# Altium footprint library BD33C0AFP.PcbLib: 1 footprints
Each footprint in its own frame and in the unit in brackets; x right, y up, seen from the top. Pads: shape width x height; smd on the part's side, far side on the other; paste and mask are expansions set on the pad; w line width, h text height; cw(c..) or ccw(c..) is an arc to the next point about the centre after c.
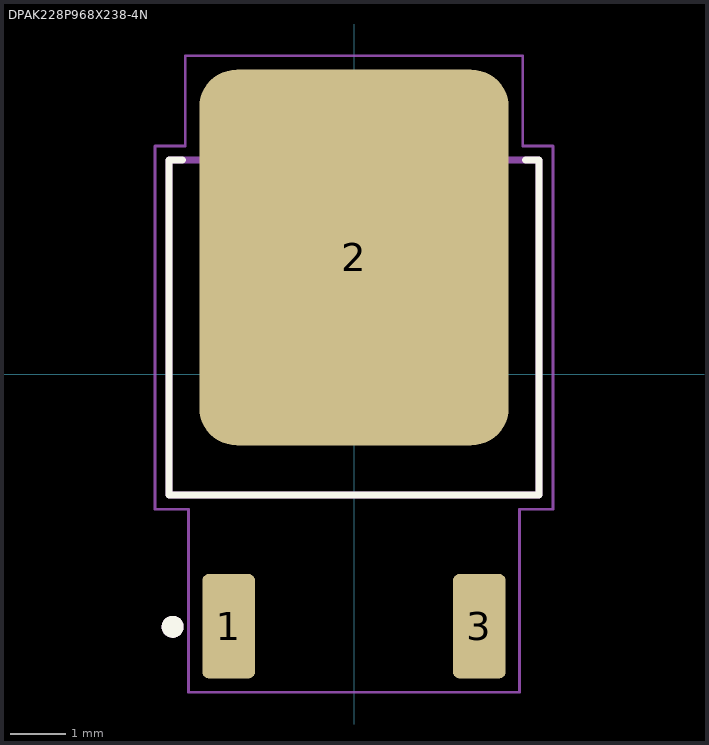
[diagram p0: the footprint, top view; thin cyan lines are the x and y axes]

## DPAK228P968X238-4N [mm]
pads (3):
  rrect24% 0.96x1.9 smd: 1(-2.28,-4.59) 3(2.28,-4.59)
  rrect24% 5.63x6.84 smd paste-4: 2(0,2.12)
Top Overlay:
  circle w0.2: c-3.3,-4.6 r0.1
  lines w0.127: -3.122,3.895 -3.37,3.895 -3.37,-2.205 3.37,-2.205 3.37,3.895 3.122,3.895
Top Paste:
  region: 1.78,-0.043 -1.783,-0.043 -1.783,4.283 1.78,4.283
Mechanical 13:
  circle w0.2: c-3.3,-4.6 r0.1
  lines w0.127: -3.37,-2.205 3.37,-2.205 3.37,3.895 -3.37,3.895 -3.37,-2.205
Mechanical 15:
  lines w0.05: -3.62,-2.46 -3.62,4.15 -3.07,4.15 -3.07,5.79 3.07,5.79 3.07,4.15 3.62,4.15 3.62,-2.46 3.01,-2.46 3.01,-5.79 -3.01,-5.79 -3.01,-2.46 -3.62,-2.46
3D body "BD33C0AFP-CE2.STEP": height 2.5, standoff 0, extent -3.25,-4.7 3.25,4.8